# Altium schematic symbol library Inductors.SchLib: 6 symbols
Pins are listed as number, name and electrical type; pins without a type are passive.

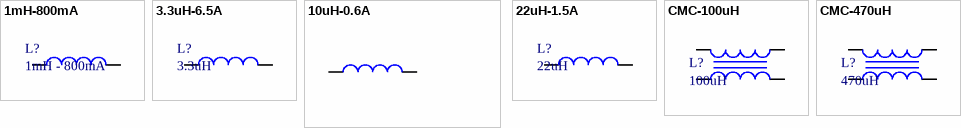
[diagram p0: symbols 1mH-800mA to CMC-470uH]

## 1mH-800mA
designator L?, comment 1mH - 800mA
FIXED IND 1MH 800MA 860 MOHM TH; Supplier 1: Digi-Key; Supplier Part Number 1: 732-7181-ND
footprint IND-Wurth-7447231102 (FIXED IND 1MH 800MA 860 MOHM TH)
pins: 2, 3

## 3.3uH-6.5A
designator L?, comment 3.3uH
FIXED IND 3.3UH 6.5A 25.2 MOHM; Manufacturer: Murata; Manufacturer Part Number: 1264EY-3R3N=P3; Core Material: Ferrite; Shielding: Shielded; DC Resistance (DCR): 25.2mR; Test Frequency: 100kHz; Tolerance: 30%; Supplier 1: Digi-Key; Stock 1: 442; Pricing 1: 1=0.51, 10=0.443, 100=0.3163, 500=0.26566 (USD); Mount: Surface Mount; Case/Package: Nonstandard; Packaging: Tape and Reel; Composition: Wirewound; Inductance: 3.3uH; Current Rating: 6.5A; Length: 0.248inch; Width: 0.248inch; Height - Seated (Max): 0.198inch; ComponentLink1URL: http://www.toko.co.jp/products/pdf/inductors/dg6050c.pdf?src-supplier=Digi-Key; ComponentLink1Description: http://www.toko.co.jp/products/pdf/inductors/dg6050c.pdf?src-supplier=Digi-Key; Supplier Part Number 1: 490-10821-6-ND
footprint IND-6x6x5 (Precision Wire Wound Inductor, 2-Leads, Body 6.00x6.00mm, IPC Medium Density)
pins: 1, 2

## 10uH-0.6A
designator L?, comment 10uH
FIXED IND 10UH 600MA 504 MOHM; Manufacturer: TDK; Manufacturer Part Number: NLCV32T-100K-EFRD; Core Material: Ferrite; Shielding: Unshielded; DC Resistance (DCR): 504mR; Self Resonant Frequency: 30MHz; Test Frequency: 2.52MHz; Tolerance: 10%; Supplier 1: Digi-Key; Stock 1: 3400; Pricing 1: 1=0.3, 10=0.264, 25=0.2312, 50=0.198, 100=0.1815, 250=0.165, 500=0.1551, 1000=0.1188 (USD); Mount: Surface Mount; Case/Package: 1210; Min Operating Temperature: -40°C; Max Operating Temperature: 125°C; Packaging: Tape and Reel; Resistor Type: Wirewound; Inductance: 10uH; Current Rating: 600mA; Length: 0.126inch; Width: 0.098inch; Height - Seated (Max): 0.094inch; Ratings: AEC-Q200; ComponentLink1URL: https://product.tdk.com/info/en/catalog/datasheets/inductor_automotive_decoupling_nlcv32-efrd_en.pdf?src-supplier=Digi-Key; ComponentLink1Description: https://product.tdk.com/info/en/catalog/datasheets/inductor_automotive_decoupling_nlcv32-efrd_en.pdf?src-supplier=Digi-Key; ComponentLink2URL: http://www.farnell.com/datasheets/2261959.pdf?src-supplier=Farnell; ComponentLink2Description: http://www.farnell.com/datasheets/2261959.pdf?src-supplier=Farnell; Supplier Part Number 1: 445-175563-6-ND
footprint IND-3.2x2.5x2.2 (Molded Inductor, 2-Leads, Body 3.20x2.50mm, IPC Medium Density)
pins: 1, 2

## 22uH-1.5A
designator L?, comment 22uH
FIXED IND 22UH 1.5A 110 MOHM SMD; Manufacturer: Bourns; Manufacturer Part Number: SDR0805-220ML; Core Material: Ferrite; Tolerance: 20%; Q Factor: 20; Self Resonant Frequency: 13MHz; Saturation Current: 2.3A; Shielding: Unshielded; Resistance: 110MR; Test Frequency: 1kHz; Supplier 1: Digi-Key; Stock 1: 37918; Pricing 1: 1=0.74, 10=0.644, 100=0.46, 500=0.3864 (USD); Mount: Surface Mount; Case/Package: Nonstandard; Number of Pins: 2; Min Operating Temperature: -40°C; Max Operating Temperature: 125°C; Packaging: Tape and Reel; Inductance: 22uH; Inductance Tolerance: 20%; Package Quantity: 1000; Current Rating: 1.5A; Max DC Current: 1.5A; DC Resistance (DCR): 110mR; Termination: SMD/SMT; Composition: Wirewound; DC Current: 1.5A; Military Standard: Not; RMS Current (Irms): 1.5A; Diameter: 7.8mm; Length: 0.307inch; Height: 5.3mm; Width: 0.307inch; Height - Seated (Max): 0.209inch; Radiation Hardening: No; REACH SVHC: No SVHC; ComponentLink1URL: http://uk.rs-online.com/webdocs/0f2b/0900766b80f2b58c.pdf?src-supplier=RSComponents; ComponentLink1Description: http://uk.rs-online.com/webdocs/0f2b/0900766b80f2b58c.pdf?src-supplier=RSComponents; ComponentLink2URL: http://www.bourns.com/data/global/pdfs/SDR0805.pdf?src-supplier=Avnet+Europe; ComponentLink2Description: http://www.bourns.com/data/global/pdfs/SDR0805.pdf?src-supplier=Avnet+Europe; ComponentLink3URL: https://www.bourns.com/docs/Product-Datasheets/SDR0805.pdf?src-supplier=Digi-Key; ComponentLink3Description: https://www.bourns.com/docs/Product-Datasheets/SDR0805.pdf?src-supplier=Digi-Key; ComponentLink4URL: http://www.bourns.com/docs/Product-Datasheets/SDR0805.pdf?src-supplier=Digi-Key; ComponentLink4Description: http://www.bourns.com/docs/Product-Datasheets/SDR0805.pdf?src-supplier=Digi-Key; ComponentLink5URL: http://www.farnell.com/datasheets/1956874.pdf?src-supplier=Element14; ComponentLink5Description: http://www.farnell.com/datasheets/1956874.pdf?src-supplier=Element14; ComponentLink6URL: http://www.bourns.com/data/global/pdfs/SDR0805.pdf?src-supplier=Avnet; ComponentLink6Description: http://www.bourns.com/data/global/pdfs/SDR0805.pdf?src-supplier=Avnet; ComponentLink7URL: https://www.alliedelec.com/m/d/227567641d9c8d29d568b020d7d4f4c8.pdf?src-supplier=Allied+Electronics; ComponentLink7Description: https://www.alliedelec.com/m/d/227567641d9c8d29d568b020d7d4f4c8.pdf?src-supplier=Allied+Electronics; Supplier Part Number 1: SDR0805-220MLCT-ND
footprint IND-7.8x7.8x5.3 (Precision Wire Wound Inductor, 2-Leads, Body 7.80x7.80mm, IPC Medium Density)
pins: 1, 2

## CMC-100uH
designator L?, comment 100uH
100µH @ 100kHz 2 Line Common Mode Choke SMD 5.8 kOhms; Manufacturer: TDK EPCOS; Manufacturer Part Number: B82787C0104H002; Core Material: Ferrite; Tolerance: 50%; DC Resistance (DCR): 2R; DC Current: 150mA; Self Resonant Frequency: 10MHz; Supplier 1: Digi-Key; Stock 1: 6844; Pricing 1: 1=1.62, 10=1.504, 100=1.0878, 500=0.83318, 1000=0.74061 (USD); Case/Package: SMD/SMT; Min Operating Temperature: -40°C; Max Operating Temperature: 150°C; Inductance: 100uH; Packaging: Tape and Reel; Test Frequency: 100kHz; Max DC Current: 150mA; Length: 4.7mm; Height: 2.8mm; Depth: 3.4mm; Lead Free: Lead Free; ComponentLink1URL: http://components.arrow.com/part/dataview/0323_04183589?src-supplier=Arrow+Europe; ComponentLink1Description: http://components.arrow.com/part/dataview/0323_04183589?src-supplier=Arrow+Europe; ComponentLink2URL: https://en.tdk.eu/inf/30/ds/act45b.pdf?src-supplier=Digi-Key; ComponentLink2Description: https://en.tdk.eu/inf/30/ds/act45b.pdf?src-supplier=Digi-Key; Supplier Part Number 1: 495-4598-6-ND
footprint CMC100U
pins: 1, 2, 3, 4

## CMC-470uH
designator L?, comment 470uH
470µH @ 100kHz 2 Line Common Mode Choke SMD 2.2 kOhms; Manufacturer: Wurth Electronics; Manufacturer Part Number: 744242471; Tolerance: 50%; Number of Lines: 2; Impedance: 2.2kR; Voltage Rating: 80V; Resistance: 350mR; Current Rating: 400mA; Supplier 1: Digi-Key; Stock 1: 424; Pricing 1: 1=3.37, 10=3.125, 50=2.822, 100=2.722, 250=2.52 (USD); Mount: Surface Mount; Case/Package: SMD/SMT; Weight: 0.003351oz; Min Operating Temperature: -40°C; Max Operating Temperature: 125°C; Package Quantity: 1; Packaging: Tape and Reel; Inductance: 470uH; Current: 400mA; DC Resistance (DCR): 350mR; Max DC Current: 400mA; Termination: SMD/SMT; Test Frequency: 100kHz; Length: 0.236inch; Height: 0.138inch; Width: 3.3mm; REACH SVHC: No SVHC; ComponentLink1URL: https://katalog.we-online.de/pbs/datasheet/744242471.pdf?src-supplier=Digi-Key; ComponentLink1Description: https://katalog.we-online.de/pbs/datasheet/744242471.pdf?src-supplier=Digi-Key; ComponentLink2URL: http://www.farnell.com/datasheets/1735656.pdf?src-supplier=Newark; ComponentLink2Description: http://www.farnell.com/datasheets/1735656.pdf?src-supplier=Newark; ComponentLink3URL: https://www.distrelec.biz/Web/Downloads/_t/ds/744242471_eng_tds.pdf?mime=application%2Fpdf&src-supplier=Distrelec; ComponentLink3Description: https://www.distrelec.biz/Web/Downloads/_t/ds/744242471_eng_tds.pdf?mime=application%2Fpdf&src-supplier=Distrelec; ComponentLink4URL: http://www.mouser.com/ds/2/445/744242471-77692.pdf?src-supplier=Mouser; ComponentLink4Description: http://www.mouser.com/ds/2/445/744242471-77692.pdf?src-supplier=Mouser; ComponentLink5URL: http://www.farnell.com/datasheets/1735656.pdf?src-supplier=Element14; ComponentLink5Description: http://www.farnell.com/datasheets/1735656.pdf?src-supplier=Element14; Supplier Part Number 1: 732-1686-6-ND
footprint CMC470u
pins: 1, 2, 3, 4